# Altium footprint library 4.37-EZ-5.08连接器.PcbLib: 8 footprints
Each footprint in its own frame and in the unit in brackets; x right, y up, seen from the top. Pads: shape width x height; smd on the part's side, far side on the other; paste and mask are expansions set on the pad; w line width, h text height; cw(c..) or ccw(c..) is an arc to the next point about the centre after c.
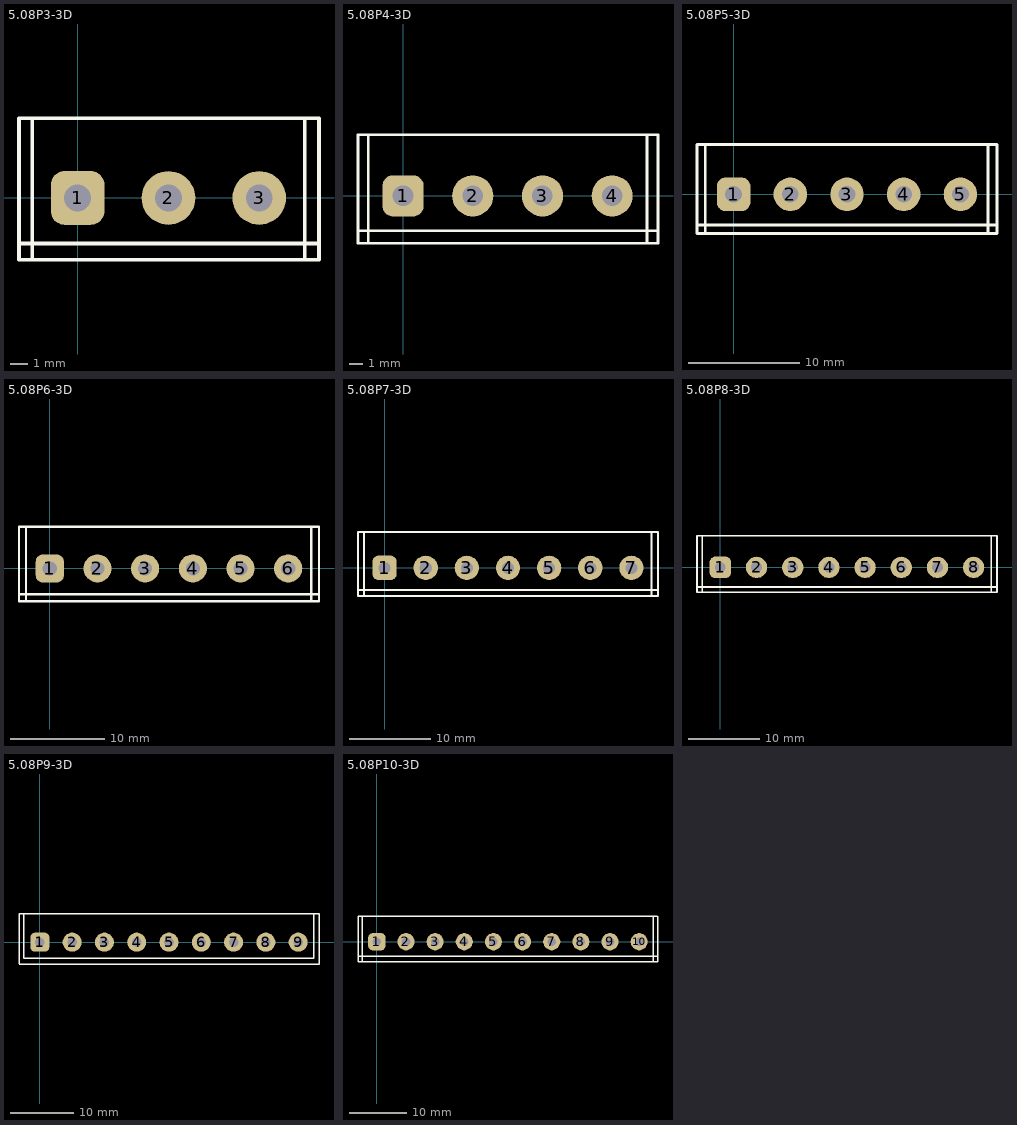
[diagram p0: the footprints below, top view; thin cyan lines are the x and y axes]

## 5.08P3-3D [mm]
height 20
pads (3):
  rrect50% 3x3 hole 1.5: 1(0,0)
  round 3 hole 1.5: 2(5.08,0) 3(10.16,0)
Top Overlay:
  lines w0.2: -3.28,-3.45 13.5,-3.45 13.5,4.445 ; -3.28,-3.429 -3.28,4.45 13.5,4.45 ; -3.28,-2.55 13.5,-2.55 ; -2.54,-3.45 -2.54,4.45 ; 12.7,-3.45 12.7,4.445
3D body "CONN-TH_3P-P5.08-WJ2EDGVC-3P.STEP": height 12.2, standoff -4, extent -3.49,-3.71 13.65,4.59

## 5.08P4-3D [mm]
height 20
pads (4):
  rrect50% 3x3 hole 1.5: 1(0,0)
  round 3 hole 1.5: 2(5.08,0) 3(10.16,0) 4(15.24,0)
Top Overlay:
  lines w0.2: -3.28,-3.45 18.58,-3.45 18.58,4.445 ; -3.28,-3.429 -3.28,4.45 18.58,4.45 ; -3.28,-2.55 18.58,-2.55 ; -2.54,-3.45 -2.54,4.45 ; 17.78,-3.45 17.78,4.445
3D body "CONN-TH_4P-P5.08_WJ2EDGVC-5.08-4P~CONN-TH_4P-P5.08_WJ2EDGVC-5.08-4P~3NAU.STEP": height 12.2, standoff -4, extent -3.49,-3.71 18.73,4.59

## 5.08P5-3D [mm]
height 12
pads (5):
  rrect50% 3x3 hole 1.5: 1(0,0)
  round 3 hole 1.5: 2(5.08,0) 3(10.16,0) 4(15.24,0) 5(20.32,0)
Top Overlay:
  lines w0.254: -3.28,-2.75 23.6,-2.75 ; -2.54,-3.5 -2.54,4.45 ; 22.78,-3.5 22.78,4.45 ; -3.28,-3.5 -3.28,4.45 23.6,4.45 23.6,-3.5 -3.28,-3.5
3D body "CONN-TH_WJ2EDGVC-5.08-5P~CONN-TH_WJ2EDGVC-5.08-5P~IkkY.STEP": height 12.2, standoff -4, extent -3.49,-3.71 23.81,4.59

## 5.08P6-3D [mm]
height 12
pads (6):
  rrect50% 3x3 hole 1.5: 1(0,0)
  round 3 hole 1.5: 2(5.08,0) 3(10.16,0) 4(15.24,0) 5(20.32,0) 6(25.4,0)
Top Overlay:
  lines w0.254: -3.28,-2.75 28.68,-2.75 ; -2.54,-3.5 -2.54,4.45 ; 27.86,-3.5 27.86,4.45 ; -3.28,-3.5 -3.28,4.45 28.68,4.45 28.68,-3.5 -3.28,-3.5
3D body "CONN-TH_6P-P5.08_WJ2EDGVC-5.08-6P~CONN-TH_6P-P5.08_WJ2EDGVC-5.08-6P~3NAU.STEP": height 12.2, standoff -4, extent -3.49,-3.71 28.89,4.59

## 5.08P7-3D [mm]
height 12
pads (7):
  rrect50% 3x3 hole 1.5: 1(0,0)
  round 3 hole 1.5: 2(5.08,0) 3(10.16,0) 4(15.24,0) 5(20.32,0) 6(25.4,0) 7(30.48,0)
Top Overlay:
  lines w0.254: -3.28,-2.75 33.76,-2.75 ; -2.54,-3.5 -2.54,4.45 ; 32.94,-3.5 32.94,4.45 ; -3.28,-3.5 33.76,-3.5 33.76,4.45 -3.28,4.45 -3.28,-3.5
3D body "CONN-TH_7P-P5.08_WJ2EDGVC-5.08-7P~CONN-TH_7P-P5.08_WJ2EDGVC-5.08-7P~3NAU.STEP": height 12.2, standoff -4, extent -3.49,-3.71 33.97,4.59

## 5.08P8-3D [mm]
height 12
pads (8):
  rrect50% 3x3 hole 1.5: 1(0,0)
  round 3 hole 1.5: 2(5.08,0) 3(10.16,0) 4(15.24,0) 5(20.32,0) 6(25.4,0) 7(30.48,0) 8(35.56,0)
Top Overlay:
  lines w0.254: -3.28,-2.75 38.84,-2.75 ; -2.54,-3.5 -2.54,4.45 ; 38.02,-3.5 38.02,4.45 ; -3.28,-3.5 38.84,-3.5 38.84,4.45 -3.28,4.45 -3.28,-3.5
3D body "CONN-TH_8P_WJ2EDGVC-5.08-8P~CONN-TH_8P_WJ2EDGVC-5.08-8P~IkkY.STEP": height 12.2, standoff -4, extent -3.49,-3.71 39.05,4.59

## 5.08P9-3D [mm]
height 12
pads (9):
  rrect50% 3x3 hole 1.5: 1(0,0)
  round 3 hole 1.5: 2(5.08,0) 3(10.16,0) 4(15.24,0) 5(20.32,0) 6(25.4,0) 7(30.48,0) 8(35.56,0) 9(40.64,0)
Top Overlay:
  lines w0.2: -3.28,-3.45 43.92,-3.45 43.92,4.45 -3.28,4.45 -3.28,-3.429 ; -2.54,4.45 -2.54,-2.55 43.1,-2.55 43.1,4.45
3D body "CONN-TH_9P-P5.08_WJ2EDGVC-5.08-9P~CONN-TH_9P-P5.08_WJ2EDGVC-5.08-9P~3NAU.STEP": height 12.2, standoff -4, extent -3.49,-3.71 44.13,4.59

## 5.08P10-3D [mm]
height 12
pads (10):
  rrect50% 3x3 hole 1.5: 1(0,0)
  round 3 hole 1.5: 2(5.08,0) 3(10.16,0) 4(15.24,0) 5(20.32,0) 6(25.4,0) 7(30.48,0) 8(35.56,0) 9(40.64,0) 10(45.72,0)
Top Overlay:
  lines w0.254: -3.28,-2.55 49,-2.55 ; -2.54,-3.5 -2.54,4.45 ; 48.18,-3.5 48.18,4.45 ; 48.895,4.45 -3.28,4.45 -3.28,-3.5 49,-3.5 49,4.45
3D body "CONN-TH_WJ2EDGVC-5.08-10P.STEP": height 13.8, standoff -2.4, extent -3.49,-3.683 49.21,4.617